# EAGLE library part WE-FB_EP10_SCH3 (library Wurth_Power Magnetics_WE-FB)
WE-FB Flyback Transformer suitable for LT3573/ LT3574/ LT3575/ LT3748 Characteristics easy design in solution less external components needed small board space low cost no optocoupler needed! long term reliability voltage control no aging same external parts for different output voltages easy design of custom power supply due to standard circuit and change of transformers and two components for feedback loop Isolation voltage up to 2.5 kV Applications Isolated power design Sensor interfaces Isolated telecom converters Power over Ethernet The "VALUE"shown for symbol and packaging is Ooutput Voltage 1 Output Current 1 <https://katalog.we-online.com/media/images/v2/o35283v209%20Family_we-fb_LT%20Kits_gruppe.jpg> Details see: https://katalog.we-online.com/en/pbs/WE-FB Updated by Yingchun,Shan 2019-08-27 2019 Wurth Elektronik
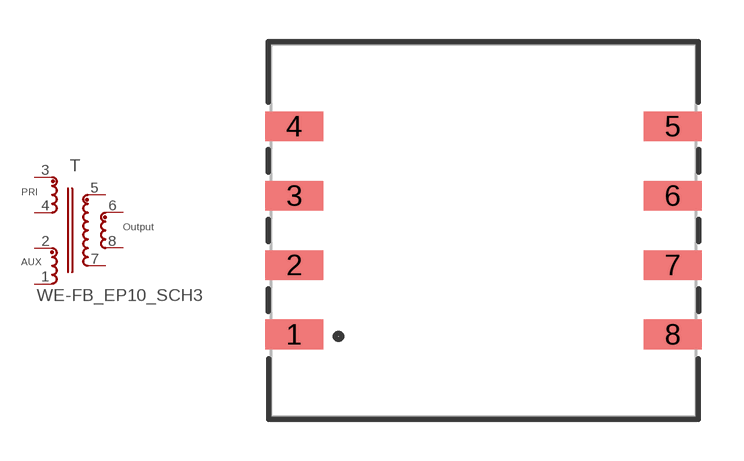
[diagram p8: symbol with the pads of WE-FB_EP10; footprint WE-FB_EP10]

Designator prefix T

## WE-FB_EP10_SCH3_750311342 (DATASHEET-URL: https://katalog.we-online.com/pbs/datasheet/750311342.pdf; ISAT: 5.8A; L: 15uH; LSMIN: 0.65uH; N: 2:1; PART-NUMBER: 750311342; VALUE: 5V 3A; VI: 36V(DC); VT: 1500V(AC)), WE-FB_EP10_SCH3_750311567 (DATASHEET-URL: https://katalog.we-online.com/pbs/datasheet/750311567.pdf; ISAT: 11.2A; L: 7uH; LSMIN: 0.8uH; N: 2:1; PART-NUMBER: 750311567; VALUE: 5V 3A; VI: 10-40V(DC); VT: 1500V(AC))  [WE-FB_EP10]
1  4  pas
2  3  pas
3  1  pas
4  2  pas
5  8  pas
6  7  pas
7  5  pas
8  6  pas

## Footprint WE-FB_EP10 (pad centres in mm)
WE-FB Flyback Transformer suitable for LT3573/ LT3574/ LT3575/ LT3748 Size: EP10 SMD 6Pin
smd 2.08 x 1.07: 1 -6.78,-3.735; 2 -6.78,-1.245; 3 -6.78,1.245; 4 -6.78,3.735; 5 6.78,3.735; 6 6.78,1.245; 7 6.78,-1.245; 8 6.78,-3.735